# Altium footprint library FBGA-780.PcbLib: 1 footprints
Each footprint in its own frame and in the unit in brackets; x right, y up, seen from the top. Pads: shape width x height; smd on the part's side, far side on the other; paste and mask are expansions set on the pad; w line width, h text height; cw(c..) or ccw(c..) is an arc to the next point about the centre after c.
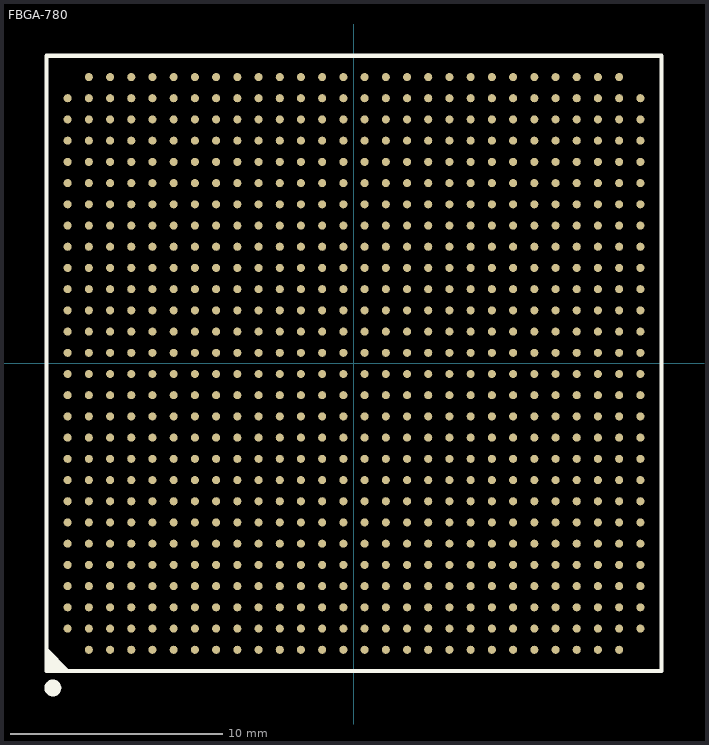
[diagram p0: the footprint, top view; thin cyan lines are the x and y axes]

## FBGA-780 [mm]
pads (780):
  round 0.38 smd mask+0.051: A2(-13.5,-12.5) A3(-13.5,-11.5) A4(-13.5,-10.5) A5(-13.5,-9.5) A6(-13.5,-8.5) A7(-13.5,-7.5) A8(-13.5,-6.5) A9(-13.5,-5.5) A10(-13.5,-4.5) A11(-13.5,-3.5) A12(-13.5,-2.5) A13(-13.5,-1.5) A14(-13.5,-0.5) A15(-13.5,0.5) A16(-13.5,1.5) A17(-13.5,2.5) A18(-13.5,3.5) A19(-13.5,4.5) A20(-13.5,5.5) A21(-13.5,6.5) A22(-13.5,7.5) A23(-13.5,8.5) A24(-13.5,9.5) A25(-13.5,10.5) A26(-13.5,11.5) A27(-13.5,12.5) AA1(6.5,-13.5) AA2(6.5,-12.5) AA3(6.5,-11.5) AA4(6.5,-10.5) AA5(6.5,-9.5) AA6(6.5,-8.5) AA7(6.5,-7.5) AA8(6.5,-6.5) AA9(6.5,-5.5) AA10(6.5,-4.5) AA11(6.5,-3.5) AA12(6.5,-2.5) AA13(6.5,-1.5) AA14(6.5,-0.5) AA15(6.5,0.5) AA16(6.5,1.5) AA17(6.5,2.5) AA18(6.5,3.5) AA19(6.5,4.5) AA20(6.5,5.5) AA21(6.5,6.5) AA22(6.5,7.5) AA23(6.5,8.5) AA24(6.5,9.5) AA25(6.5,10.5) AA26(6.5,11.5) AA27(6.5,12.5) AA28(6.5,13.5) AB1(7.5,-13.5) AB2(7.5,-12.5) AB3(7.5,-11.5) AB4(7.5,-10.5) AB5(7.5,-9.5) AB6(7.5,-8.5) AB7(7.5,-7.5) AB8(7.5,-6.5) AB9(7.5,-5.5) AB10(7.5,-4.5) AB11(7.5,-3.5) AB12(7.5,-2.5) AB13(7.5,-1.5) AB14(7.5,-0.5) AB15(7.5,0.5) AB16(7.5,1.5) AB17(7.5,2.5) AB18(7.5,3.5) AB19(7.5,4.5) AB20(7.5,5.5) AB21(7.5,6.5) AB22(7.5,7.5) AB23(7.5,8.5) AB24(7.5,9.5) AB25(7.5,10.5) AB26(7.5,11.5) AB27(7.5,12.5) AB28(7.5,13.5) AC1(8.5,-13.5) AC2(8.5,-12.5) AC3(8.5,-11.5) AC4(8.5,-10.5) AC5(8.5,-9.5) AC6(8.5,-8.5) AC7(8.5,-7.5) AC8(8.5,-6.5) AC9(8.5,-5.5) AC10(8.5,-4.5) AC11(8.5,-3.5) AC12(8.5,-2.5) AC13(8.5,-1.5) AC14(8.5,-0.5) AC15(8.5,0.5) AC16(8.5,1.5) AC17(8.5,2.5) AC18(8.5,3.5) AC19(8.5,4.5) AC20(8.5,5.5) AC21(8.5,6.5) AC22(8.5,7.5) AC23(8.5,8.5) AC24(8.5,9.5) AC25(8.5,10.5) AC26(8.5,11.5) AC27(8.5,12.5) AC28(8.5,13.5) AD1(9.5,-13.5) AD2(9.5,-12.5) AD3(9.5,-11.5) AD4(9.5,-10.5) AD5(9.5,-9.5) AD6(9.5,-8.5) AD7(9.5,-7.5) AD8(9.5,-6.5) AD9(9.5,-5.5) AD10(9.5,-4.5) AD11(9.5,-3.5) AD12(9.5,-2.5) AD13(9.5,-1.5) AD14(9.5,-0.5) AD15(9.5,0.5) AD16(9.5,1.5) AD17(9.5,2.5) AD18(9.5,3.5) AD19(9.5,4.5) AD20(9.5,5.5) AD21(9.5,6.5) AD22(9.5,7.5) AD23(9.5,8.5) AD24(9.5,9.5) AD25(9.5,10.5) AD26(9.5,11.5) AD27(9.5,12.5) AD28(9.5,13.5) AE1(10.5,-13.5) AE2(10.5,-12.5) AE3(10.5,-11.5) AE4(10.5,-10.5) AE5(10.5,-9.5) AE6(10.5,-8.5) AE7(10.5,-7.5) AE8(10.5,-6.5) AE9(10.5,-5.5) AE10(10.5,-4.5) AE11(10.5,-3.5) AE12(10.5,-2.5) AE13(10.5,-1.5) AE14(10.5,-0.5) AE15(10.5,0.5) AE16(10.5,1.5) AE17(10.5,2.5) AE18(10.5,3.5) AE19(10.5,4.5) AE20(10.5,5.5) AE21(10.5,6.5) AE22(10.5,7.5) AE23(10.5,8.5) AE24(10.5,9.5) AE25(10.5,10.5) AE26(10.5,11.5) AE27(10.5,12.5) AE28(10.5,13.5) AF1(11.5,-13.5) AF2(11.5,-12.5) AF3(11.5,-11.5) AF4(11.5,-10.5) AF5(11.5,-9.5) AF6(11.5,-8.5) AF7(11.5,-7.5) AF8(11.5,-6.5) AF9(11.5,-5.5) AF10(11.5,-4.5) AF11(11.5,-3.5) AF12(11.5,-2.5) AF13(11.5,-1.5) AF14(11.5,-0.5) AF15(11.5,0.5) AF16(11.5,1.5) AF17(11.5,2.5) AF18(11.5,3.5) AF19(11.5,4.5) AF20(11.5,5.5) AF21(11.5,6.5) AF22(11.5,7.5) AF23(11.5,8.5) AF24(11.5,9.5) AF25(11.5,10.5) AF26(11.5,11.5) AF27(11.5,12.5) AF28(11.5,13.5) AG1(12.5,-13.5) AG2(12.5,-12.5) AG3(12.5,-11.5) AG4(12.5,-10.5) AG5(12.5,-9.5) AG6(12.5,-8.5) AG7(12.5,-7.5) AG8(12.5,-6.5) AG9(12.5,-5.5) AG10(12.5,-4.5) AG11(12.5,-3.5) AG12(12.5,-2.5) AG13(12.5,-1.5) AG14(12.5,-0.5) AG15(12.5,0.5) AG16(12.5,1.5) AG17(12.5,2.5) AG18(12.5,3.5) AG19(12.5,4.5) AG20(12.5,5.5) AG21(12.5,6.5) AG22(12.5,7.5) AG23(12.5,8.5) AG24(12.5,9.5) AG25(12.5,10.5) AG26(12.5,11.5) AG27(12.5,12.5) AG28(12.5,13.5) AH2(13.5,-12.5) AH3(13.5,-11.5) AH4(13.5,-10.5) AH5(13.5,-9.5) AH6(13.5,-8.5) AH7(13.5,-7.5) AH8(13.5,-6.5) AH9(13.5,-5.5) AH10(13.5,-4.5) AH11(13.5,-3.5) AH12(13.5,-2.5) AH13(13.5,-1.5) AH14(13.5,-0.5) AH15(13.5,0.5) AH16(13.5,1.5) AH17(13.5,2.5) AH18(13.5,3.5) AH19(13.5,4.5) AH20(13.5,5.5) AH21(13.5,6.5) AH22(13.5,7.5) AH23(13.5,8.5) AH24(13.5,9.5) AH25(13.5,10.5) AH26(13.5,11.5) AH27(13.5,12.5) B1(-12.5,-13.5) B2(-12.5,-12.5) B3(-12.5,-11.5) B4(-12.5,-10.5) B5(-12.5,-9.5) B6(-12.5,-8.5) B7(-12.5,-7.5) B8(-12.5,-6.5) B9(-12.5,-5.5) B10(-12.5,-4.5) B11(-12.5,-3.5) B12(-12.5,-2.5) B13(-12.5,-1.5) B14(-12.5,-0.5) B15(-12.5,0.5) B16(-12.5,1.5) B17(-12.5,2.5) B18(-12.5,3.5) B19(-12.5,4.5) B20(-12.5,5.5) B21(-12.5,6.5) B22(-12.5,7.5) B23(-12.5,8.5) B24(-12.5,9.5) B25(-12.5,10.5) B26(-12.5,11.5) B27(-12.5,12.5) B28(-12.5,13.5) C1(-11.5,-13.5) C2(-11.5,-12.5) C3(-11.5,-11.5) C4(-11.5,-10.5) C5(-11.5,-9.5) C6(-11.5,-8.5) C7(-11.5,-7.5) C8(-11.5,-6.5) C9(-11.5,-5.5) C10(-11.5,-4.5) C11(-11.5,-3.5) C12(-11.5,-2.5) C13(-11.5,-1.5) C14(-11.5,-0.5) C15(-11.5,0.5) C16(-11.5,1.5) C17(-11.5,2.5) C18(-11.5,3.5) C19(-11.5,4.5) C20(-11.5,5.5) C21(-11.5,6.5) C22(-11.5,7.5) C23(-11.5,8.5) C24(-11.5,9.5) C25(-11.5,10.5) C26(-11.5,11.5) C27(-11.5,12.5) C28(-11.5,13.5) D1(-10.5,-13.5) D2(-10.5,-12.5) D3(-10.5,-11.5) D4(-10.5,-10.5) D5(-10.5,-9.5) D6(-10.5,-8.5) D7(-10.5,-7.5) D8(-10.5,-6.5) D9(-10.5,-5.5) D10(-10.5,-4.5) D11(-10.5,-3.5) D12(-10.5,-2.5) D13(-10.5,-1.5) D14(-10.5,-0.5) D15(-10.5,0.5) D16(-10.5,1.5) D17(-10.5,2.5) D18(-10.5,3.5) D19(-10.5,4.5) D20(-10.5,5.5) D21(-10.5,6.5) D22(-10.5,7.5) D23(-10.5,8.5) D24(-10.5,9.5) D25(-10.5,10.5) D26(-10.5,11.5) D27(-10.5,12.5) D28(-10.5,13.5) E1(-9.5,-13.5) E2(-9.5,-12.5) E3(-9.5,-11.5) E4(-9.5,-10.5) E5(-9.5,-9.5) E6(-9.5,-8.5) E7(-9.5,-7.5) E8(-9.5,-6.5) E9(-9.5,-5.5) E10(-9.5,-4.5) E11(-9.5,-3.5) E12(-9.5,-2.5) E13(-9.5,-1.5) E14(-9.5,-0.5) E15(-9.5,0.5) E16(-9.5,1.5) E17(-9.5,2.5) E18(-9.5,3.5) E19(-9.5,4.5) E20(-9.5,5.5) E21(-9.5,6.5) E22(-9.5,7.5) E23(-9.5,8.5) E24(-9.5,9.5) E25(-9.5,10.5) E26(-9.5,11.5) E27(-9.5,12.5) E28(-9.5,13.5) F1(-8.5,-13.5) F2(-8.5,-12.5) F3(-8.5,-11.5) F4(-8.5,-10.5) F5(-8.5,-9.5) F6(-8.5,-8.5) F7(-8.5,-7.5) F8(-8.5,-6.5) F9(-8.5,-5.5) F10(-8.5,-4.5) F11(-8.5,-3.5) F12(-8.5,-2.5) F13(-8.5,-1.5) F14(-8.5,-0.5) F15(-8.5,0.5) F16(-8.5,1.5) F17(-8.5,2.5) F18(-8.5,3.5) F19(-8.5,4.5) F20(-8.5,5.5) F21(-8.5,6.5) F22(-8.5,7.5) F23(-8.5,8.5) F24(-8.5,9.5) F25(-8.5,10.5) F26(-8.5,11.5) F27(-8.5,12.5) F28(-8.5,13.5) G1(-7.5,-13.5) G2(-7.5,-12.5) G3(-7.5,-11.5) G4(-7.5,-10.5) G5(-7.5,-9.5) G6(-7.5,-8.5) G7(-7.5,-7.5) G8(-7.5,-6.5) G9(-7.5,-5.5) G10(-7.5,-4.5) G11(-7.5,-3.5) G12(-7.5,-2.5) G13(-7.5,-1.5) G14(-7.5,-0.5) G15(-7.5,0.5) G16(-7.5,1.5) G17(-7.5,2.5) G18(-7.5,3.5) G19(-7.5,4.5) G20(-7.5,5.5) G21(-7.5,6.5) G22(-7.5,7.5) G23(-7.5,8.5) G24(-7.5,9.5) G25(-7.5,10.5) G26(-7.5,11.5) G27(-7.5,12.5) G28(-7.5,13.5) H1(-6.5,-13.5) H2(-6.5,-12.5) H3(-6.5,-11.5) H4(-6.5,-10.5) H5(-6.5,-9.5) H6(-6.5,-8.5) H7(-6.5,-7.5) H8(-6.5,-6.5) H9(-6.5,-5.5) H10(-6.5,-4.5) H11(-6.5,-3.5) H12(-6.5,-2.5) H13(-6.5,-1.5) H14(-6.5,-0.5) H15(-6.5,0.5) H16(-6.5,1.5) H17(-6.5,2.5) H18(-6.5,3.5) H19(-6.5,4.5) H20(-6.5,5.5) H21(-6.5,6.5) H22(-6.5,7.5) H23(-6.5,8.5) H24(-6.5,9.5) H25(-6.5,10.5) H26(-6.5,11.5) H27(-6.5,12.5) H28(-6.5,13.5) J1(-5.5,-13.5) J2(-5.5,-12.5) J3(-5.5,-11.5) J4(-5.5,-10.5) J5(-5.5,-9.5) J6(-5.5,-8.5) J7(-5.5,-7.5) J8(-5.5,-6.5) J9(-5.5,-5.5) J10(-5.5,-4.5) J11(-5.5,-3.5) J12(-5.5,-2.5) J13(-5.5,-1.5) J14(-5.5,-0.5) J15(-5.5,0.5) J16(-5.5,1.5) J17(-5.5,2.5) J18(-5.5,3.5) J19(-5.5,4.5) J20(-5.5,5.5) J21(-5.5,6.5) J22(-5.5,7.5) J23(-5.5,8.5) J24(-5.5,9.5) J25(-5.5,10.5) J26(-5.5,11.5) J27(-5.5,12.5) J28(-5.5,13.5) K1(-4.5,-13.5) K2(-4.5,-12.5) K3(-4.5,-11.5) K4(-4.5,-10.5) K5(-4.5,-9.5) K6(-4.5,-8.5) K7(-4.5,-7.5) K8(-4.5,-6.5) K9(-4.5,-5.5) K10(-4.5,-4.5) K11(-4.5,-3.5) K12(-4.5,-2.5) K13(-4.5,-1.5) K14(-4.5,-0.5) K15(-4.5,0.5) K16(-4.5,1.5) K17(-4.5,2.5) K18(-4.5,3.5) K19(-4.5,4.5) K20(-4.5,5.5) K21(-4.5,6.5) K22(-4.5,7.5) K23(-4.5,8.5) K24(-4.5,9.5) K25(-4.5,10.5) K26(-4.5,11.5) K27(-4.5,12.5) K28(-4.5,13.5) L1(-3.5,-13.5) L2(-3.5,-12.5) L3(-3.5,-11.5) L4(-3.5,-10.5) L5(-3.5,-9.5) L6(-3.5,-8.5) L7(-3.5,-7.5) L8(-3.5,-6.5) L9(-3.5,-5.5) L10(-3.5,-4.5) L11(-3.5,-3.5) L12(-3.5,-2.5) L13(-3.5,-1.5) L14(-3.5,-0.5) L15(-3.5,0.5) L16(-3.5,1.5) L17(-3.5,2.5) L18(-3.5,3.5) L19(-3.5,4.5) L20(-3.5,5.5) L21(-3.5,6.5) L22(-3.5,7.5) L23(-3.5,8.5) L24(-3.5,9.5) L25(-3.5,10.5) L26(-3.5,11.5) L27(-3.5,12.5) L28(-3.5,13.5) M1(-2.5,-13.5) M2(-2.5,-12.5) M3(-2.5,-11.5) M4(-2.5,-10.5) M5(-2.5,-9.5) M6(-2.5,-8.5) M7(-2.5,-7.5) M8(-2.5,-6.5) M9(-2.5,-5.5) M10(-2.5,-4.5) M11(-2.5,-3.5) M12(-2.5,-2.5) M13(-2.5,-1.5) M14(-2.5,-0.5) M15(-2.5,0.5) M16(-2.5,1.5) M17(-2.5,2.5) M18(-2.5,3.5) M19(-2.5,4.5) M20(-2.5,5.5) M21(-2.5,6.5) M22(-2.5,7.5) M23(-2.5,8.5) M24(-2.5,9.5) M25(-2.5,10.5) M26(-2.5,11.5) M27(-2.5,12.5) M28(-2.5,13.5) N1(-1.5,-13.5) N2(-1.5,-12.5) N3(-1.5,-11.5) N4(-1.5,-10.5) N5(-1.5,-9.5) N6(-1.5,-8.5) N7(-1.5,-7.5) N8(-1.5,-6.5) N9(-1.5,-5.5) N10(-1.5,-4.5) N11(-1.5,-3.5) N12(-1.5,-2.5) N13(-1.5,-1.5) N14(-1.5,-0.5) N15(-1.5,0.5) N16(-1.5,1.5) N17(-1.5,2.5) N18(-1.5,3.5) N19(-1.5,4.5) N20(-1.5,5.5) N21(-1.5,6.5) N22(-1.5,7.5) N23(-1.5,8.5) N24(-1.5,9.5) N25(-1.5,10.5) N26(-1.5,11.5) N27(-1.5,12.5) N28(-1.5,13.5) P1(-0.5,-13.5) P2(-0.5,-12.5) P3(-0.5,-11.5) P4(-0.5,-10.5) P5(-0.5,-9.5) P6(-0.5,-8.5) P7(-0.5,-7.5) P8(-0.5,-6.5) P9(-0.5,-5.5) P10(-0.5,-4.5) P11(-0.5,-3.5) P12(-0.5,-2.5) P13(-0.5,-1.5) P14(-0.5,-0.5) P15(-0.5,0.5) P16(-0.5,1.5) P17(-0.5,2.5) P18(-0.5,3.5) P19(-0.5,4.5) P20(-0.5,5.5) P21(-0.5,6.5) P22(-0.5,7.5) P23(-0.5,8.5) P24(-0.5,9.5) P25(-0.5,10.5) P26(-0.5,11.5) P27(-0.5,12.5) P28(-0.5,13.5) R1(0.5,-13.5) R2(0.5,-12.5) R3(0.5,-11.5) R4(0.5,-10.5) R5(0.5,-9.5) R6(0.5,-8.5) R7(0.5,-7.5) R8(0.5,-6.5) R9(0.5,-5.5) R10(0.5,-4.5) R11(0.5,-3.5) R12(0.5,-2.5) R13(0.5,-1.5) R14(0.5,-0.5) R15(0.5,0.5) R16(0.5,1.5) R17(0.5,2.5) R18(0.5,3.5) R19(0.5,4.5) R20(0.5,5.5) R21(0.5,6.5) R22(0.5,7.5) R23(0.5,8.5) R24(0.5,9.5) R25(0.5,10.5) R26(0.5,11.5) R27(0.5,12.5) R28(0.5,13.5) T1(1.5,-13.5) T2(1.5,-12.5) T3(1.5,-11.5) T4(1.5,-10.5) T5(1.5,-9.5) T6(1.5,-8.5) T7(1.5,-7.5) T8(1.5,-6.5) T9(1.5,-5.5) T10(1.5,-4.5) T11(1.5,-3.5) T12(1.5,-2.5) T13(1.5,-1.5) T14(1.5,-0.5) T15(1.5,0.5) T16(1.5,1.5) T17(1.5,2.5) T18(1.5,3.5) T19(1.5,4.5) T20(1.5,5.5) T21(1.5,6.5) T22(1.5,7.5) T23(1.5,8.5) T24(1.5,9.5) T25(1.5,10.5) T26(1.5,11.5) T27(1.5,12.5) T28(1.5,13.5) U1(2.5,-13.5) U2(2.5,-12.5) U3(2.5,-11.5) U4(2.5,-10.5) U5(2.5,-9.5) U6(2.5,-8.5) U7(2.5,-7.5) U8(2.5,-6.5) U9(2.5,-5.5) U10(2.5,-4.5) U11(2.5,-3.5) U12(2.5,-2.5) U13(2.5,-1.5) U14(2.5,-0.5) U15(2.5,0.5) U16(2.5,1.5) U17(2.5,2.5) U18(2.5,3.5) U19(2.5,4.5) U20(2.5,5.5) U21(2.5,6.5) U22(2.5,7.5) U23(2.5,8.5) U24(2.5,9.5) U25(2.5,10.5) U26(2.5,11.5) U27(2.5,12.5) U28(2.5,13.5) V1(3.5,-13.5) V2(3.5,-12.5) V3(3.5,-11.5) V4(3.5,-10.5) V5(3.5,-9.5) V6(3.5,-8.5) V7(3.5,-7.5) V8(3.5,-6.5) V9(3.5,-5.5) V10(3.5,-4.5) V11(3.5,-3.5) V12(3.5,-2.5) V13(3.5,-1.5) V14(3.5,-0.5) V15(3.5,0.5) V16(3.5,1.5) V17(3.5,2.5) V18(3.5,3.5) V19(3.5,4.5) V20(3.5,5.5) V21(3.5,6.5) V22(3.5,7.5) V23(3.5,8.5) V24(3.5,9.5) V25(3.5,10.5) V26(3.5,11.5) V27(3.5,12.5) V28(3.5,13.5) W1(4.5,-13.5) W2(4.5,-12.5) W3(4.5,-11.5) W4(4.5,-10.5) W5(4.5,-9.5) W6(4.5,-8.5) W7(4.5,-7.5) W8(4.5,-6.5) W9(4.5,-5.5) W10(4.5,-4.5) W11(4.5,-3.5) W12(4.5,-2.5) W13(4.5,-1.5) W14(4.5,-0.5) W15(4.5,0.5) W16(4.5,1.5) W17(4.5,2.5) W18(4.5,3.5) W19(4.5,4.5) W20(4.5,5.5) W21(4.5,6.5) W22(4.5,7.5) W23(4.5,8.5) W24(4.5,9.5) W25(4.5,10.5) W26(4.5,11.5) W27(4.5,12.5) W28(4.5,13.5) Y1(5.5,-13.5) Y2(5.5,-12.5) Y3(5.5,-11.5) Y4(5.5,-10.5) Y5(5.5,-9.5) Y6(5.5,-8.5) Y7(5.5,-7.5) Y8(5.5,-6.5) Y9(5.5,-5.5) Y10(5.5,-4.5) Y11(5.5,-3.5) Y12(5.5,-2.5) Y13(5.5,-1.5) Y14(5.5,-0.5) Y15(5.5,0.5) Y16(5.5,1.5) Y17(5.5,2.5) Y18(5.5,3.5) Y19(5.5,4.5) Y20(5.5,5.5) Y21(5.5,6.5) Y22(5.5,7.5) Y23(5.5,8.5) Y24(5.5,9.5) Y25(5.5,10.5) Y26(5.5,11.5) Y27(5.5,12.5) Y28(5.5,13.5)
Top Overlay:
  circle w0.4: c-14.2,-15.3 r0.2
  region: -14.5,-13.5 -13.5,-14.5 -14.5,-14.5
  lines w0.2: -14.5,-13.5 -13.5,-14.5 ; -14.5,-14.5 14.5,-14.5 14.5,14.5 -14.5,14.5 -14.5,-14.5
Mechanical 13:
  lines w0.1: -14.5,-14.5 14.5,-14.5 14.5,14.5 -14.5,14.5 -14.5,-14.5